# Altium schematic symbol library MOSFET驱动芯片.SchLib: 2 symbols
Pins are listed as number, name and electrical type; pins without a type are passive.

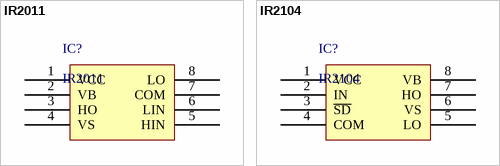
[diagram p0: symbols IR2011 to IR2104]

## IR2011
designator IC?
MOS驱动芯片
footprint SOP8-ESOP_M (4.0*5.2*1.75mm（长宽高）)
footprint SOP8-ESOP-L (4.0*5.2*1.75mm（长宽高）)
pins: 1 VCC, 2 VB, 3 HO, 4 VS, 5 HIN, 6 LIN, 7 COM, 8 LO

## IR2104
designator IC?
半桥MOS驱动芯片
footprint SOP8-ESOP-L (4.0*5.2*1.75mm（长宽高）)
footprint SOP8-ESOP_M (4.0*5.2*1.75mm（长宽高）)
pins: 1 VCC, 2 IN, 3 ~{SD}, 4 COM, 5 LO, 6 VS, 7 HO, 8 VB